# Altium schematic symbol library Sch_Lib.SchLib: 138 symbols (part 2 of 2)
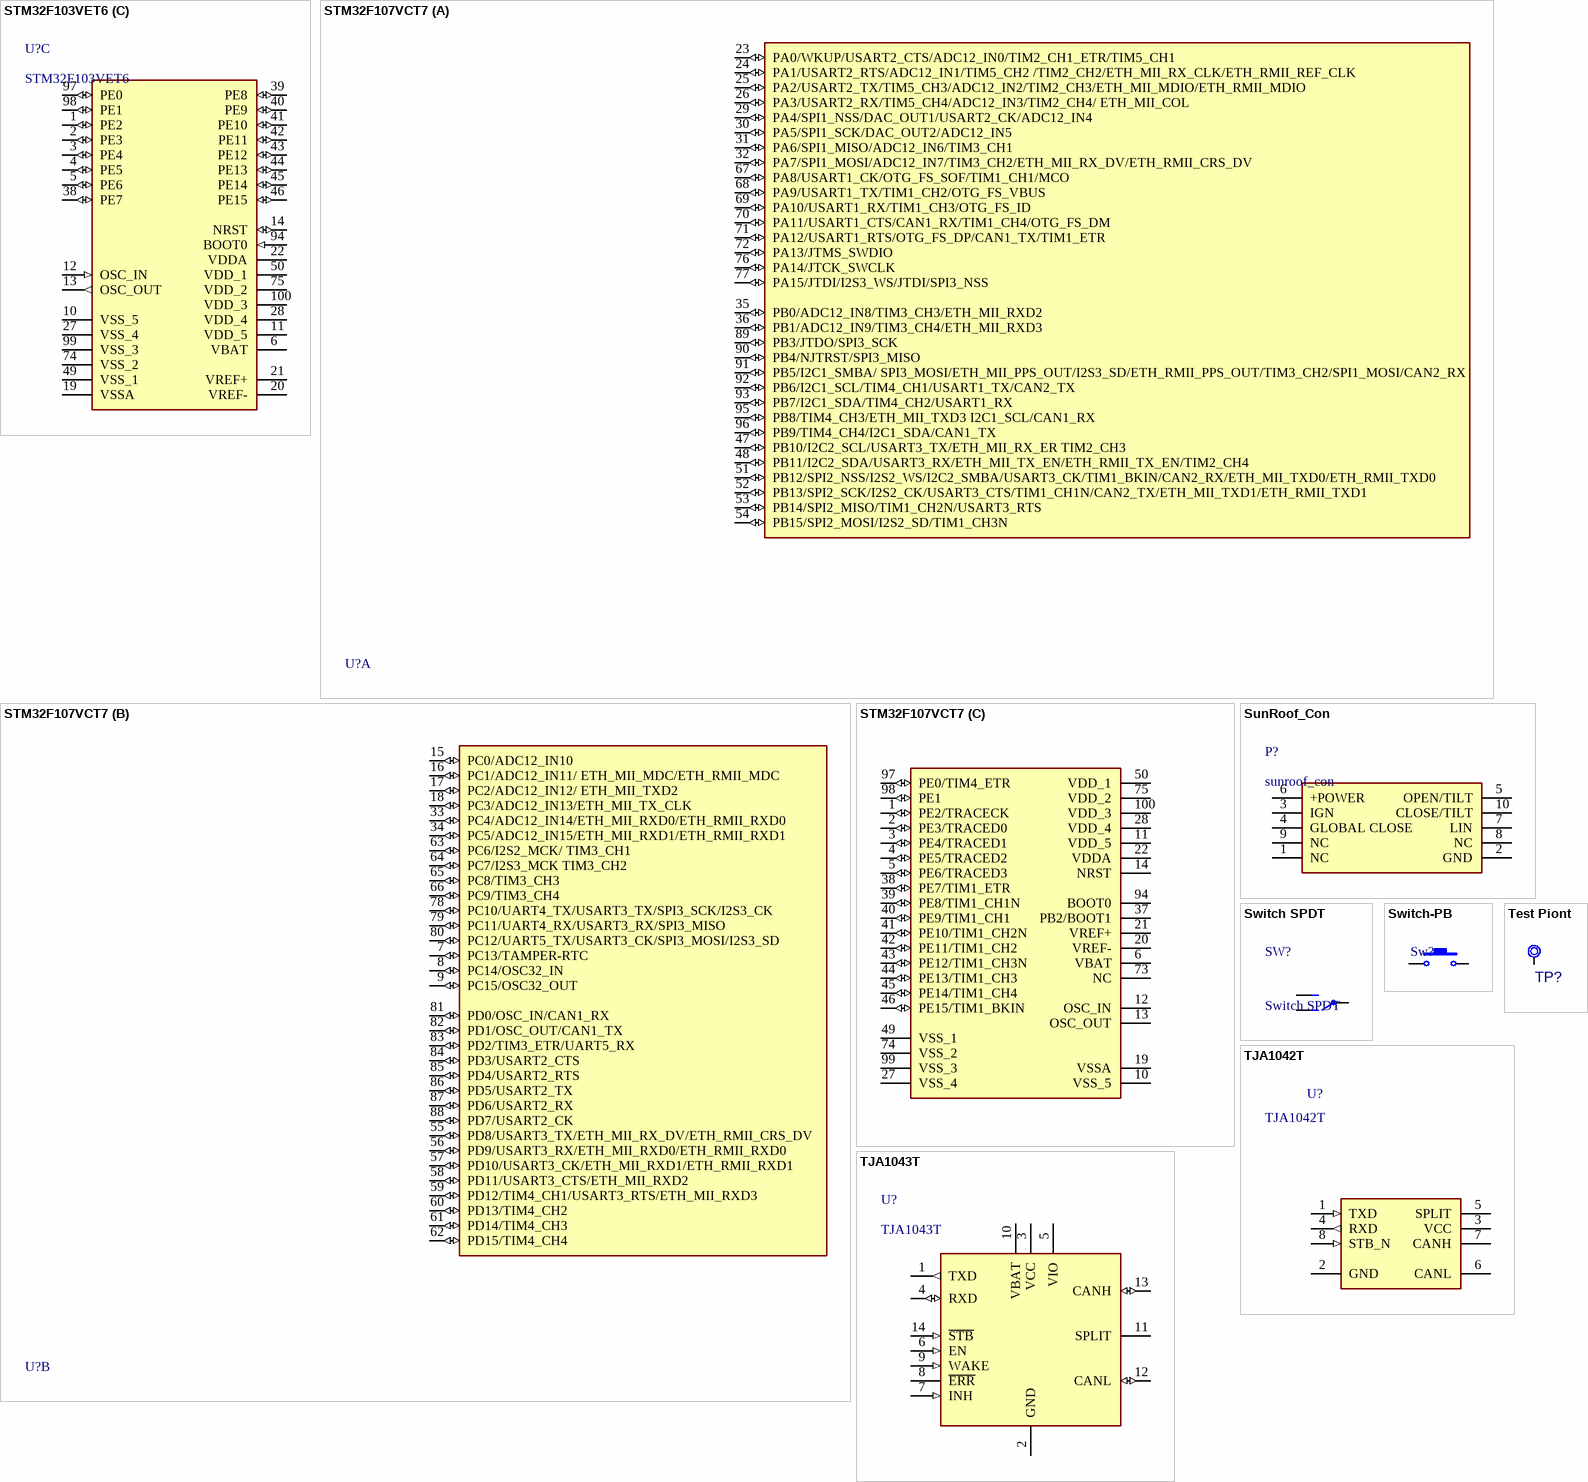
[diagram p6: symbols STM32F103VET6 to TJA1043T]

## STM32F107VCT7
designator U?, comment STM32F107VCT7_QFP100  (value not drawn)
MCU, STM32 ARM 32-bit, Cortex M3, 256KB FLASH, 64KB SRAM; DESC: USB OTG, ETHERNET, 2ADC, DAC, CAN, I2C, SPI, UART; MANF: ST; PARAM2: 2~3.6VCC, 72MHz, 2X12Bit ADC, 2X12Bit DAC; PARAM: 256KB FLASH, 64KB SRAM, -40~105oC; MANF_P#: STM32F107VCT7; PRICE: 9$; VALUE: STM32F107
footprint QFG50_100 (LQFP100, PQFP100, A100 (Cypress), TQ100/VQ100 (Xilinx), 14.0x14.0mm, Pitch 0.5mm, HT100, HTG100)
footprint QFG50_100 (LQFP100, PQFP100, A100 (Cypress), TQ100/VQ100 (Xilinx), 14.0x14.0mm, Pitch 0.5mm, HT100, HTG100)
footprint QFG65_100T (HQ100, 20X14, 0.65mm)
footprint QFG65_100 (PQ100, MS-022-GC1(JEDEC), QFP100, 20X14, 0.65mm)
footprint QFG50_100 (LQFP100, PQFP100, A100 (Cypress), TQ100/VQ100 (Xilinx), 14.0x14.0mm, Pitch 0.5mm, HT100, HTG100)
part A pins: 23 PA0/WKUP/USART2_CTS/ADC12_IN0/TIM2_CH1_ETR/TIM5_CH1 (io), 24 PA1/USART2_RTS/ADC12_IN1/TIM5_CH2 /TIM2_CH2/ETH_MII_RX_CLK/ETH_RMII_REF_CLK (io), 25 PA2/USART2_TX/TIM5_CH3/ADC12_IN2/TIM2_CH3/ETH_MII_MDIO/ETH_RMII_MDIO (io), 26 PA3/USART2_RX/TIM5_CH4/ADC12_IN3/TIM2_CH4/ ETH_MII_COL (io), 29 PA4/SPI1_NSS/DAC_OUT1/USART2_CK/ADC12_IN4 (io), 30 PA5/SPI1_SCK/DAC_OUT2/ADC12_IN5 (io), 31 PA6/SPI1_MISO/ADC12_IN6/TIM3_CH1 (io), 32 PA7/SPI1_MOSI/ADC12_IN7/TIM3_CH2/ETH_MII_RX_DV/ETH_RMII_CRS_DV (io), 35 PB0/ADC12_IN8/TIM3_CH3/ETH_MII_RXD2 (io), 36 PB1/ADC12_IN9/TIM3_CH4/ETH_MII_RXD3 (io), 47 PB10/I2C2_SCL/USART3_TX/ETH_MII_RX_ER TIM2_CH3 (io), 48 PB11/I2C2_SDA/USART3_RX/ETH_MII_TX_EN/ETH_RMII_TX_EN/TIM2_CH4 (io), 51 PB12/SPI2_NSS/I2S2_WS/I2C2_SMBA/USART3_CK/TIM1_BKIN/CAN2_RX/ETH_MII_TXD0/ETH_RMII_TXD0 (io), 52 PB13/SPI2_SCK/I2S2_CK/USART3_CTS/TIM1_CH1N/CAN2_TX/ETH_MII_TXD1/ETH_RMII_TXD1 (io), 53 PB14/SPI2_MISO/TIM1_CH2N/USART3_RTS (io), 54 PB15/SPI2_MOSI/I2S2_SD/TIM1_CH3N (io), 67 PA8/USART1_CK/OTG_FS_SOF/TIM1_CH1/MCO (io), 68 PA9/USART1_TX/TIM1_CH2/OTG_FS_VBUS (io), 69 PA10/USART1_RX/TIM1_CH3/OTG_FS_ID (io), 70 PA11/USART1_CTS/CAN1_RX/TIM1_CH4/OTG_FS_DM (io), 71 PA12/USART1_RTS/OTG_FS_DP/CAN1_TX/TIM1_ETR (io), 72 PA13/JTMS_SWDIO (io), 76 PA14/JTCK_SWCLK (io), 77 PA15/JTDI/I2S3_WS/JTDI/SPI3_NSS (io), 89 PB3/JTDO/SPI3_SCK (io), 90 PB4/NJTRST/SPI3_MISO (io), 91 PB5/I2C1_SMBA/ SPI3_MOSI/ETH_MII_PPS_OUT/I2S3_SD/ETH_RMII_PPS_OUT/TIM3_CH2/SPI1_MOSI/CAN2_RX (io), 92 PB6/I2C1_SCL/TIM4_CH1/USART1_TX/CAN2_TX (io), 93 PB7/I2C1_SDA/TIM4_CH2/USART1_RX (io), 95 PB8/TIM4_CH3/ETH_MII_TXD3 I2C1_SCL/CAN1_RX (io), 96 PB9/TIM4_CH4/I2C1_SDA/CAN1_TX (io)
part B pins: 7 PC13/TAMPER-RTC (io), 8 PC14/OSC32_IN (io), 9 PC15/OSC32_OUT (io), 15 PC0/ADC12_IN10 (io), 16 PC1/ADC12_IN11/ ETH_MII_MDC/ETH_RMII_MDC (io), 17 PC2/ADC12_IN12/ ETH_MII_TXD2 (io), 18 PC3/ADC12_IN13/ETH_MII_TX_CLK (io), 33 PC4/ADC12_IN14/ETH_MII_RXD0/ETH_RMII_RXD0 (io), 34 PC5/ADC12_IN15/ETH_MII_RXD1/ETH_RMII_RXD1 (io), 55 PD8/USART3_TX/ETH_MII_RX_DV/ETH_RMII_CRS_DV (io), 56 PD9/USART3_RX/ETH_MII_RXD0/ETH_RMII_RXD0 (io), 57 PD10/USART3_CK/ETH_MII_RXD1/ETH_RMII_RXD1 (io), 58 PD11/USART3_CTS/ETH_MII_RXD2 (io), 59 PD12/TIM4_CH1/USART3_RTS/ETH_MII_RXD3 (io), 60 PD13/TIM4_CH2 (io), 61 PD14/TIM4_CH3 (io), 62 PD15/TIM4_CH4 (io), 63 PC6/I2S2_MCK/ TIM3_CH1 (io), 64 PC7/I2S3_MCK TIM3_CH2 (io), 65 PC8/TIM3_CH3 (io), 66 PC9/TIM3_CH4 (io), 78 PC10/UART4_TX/USART3_TX/SPI3_SCK/I2S3_CK (io), 79 PC11/UART4_RX/USART3_RX/SPI3_MISO (io), 80 PC12/UART5_TX/USART3_CK/SPI3_MOSI/I2S3_SD (io), 81 PD0/OSC_IN/CAN1_RX (io), 82 PD1/OSC_OUT/CAN1_TX (io), 83 PD2/TIM3_ETR/UART5_RX (io), 84 PD3/USART2_CTS (io), 85 PD4/USART2_RTS (io), 86 PD5/USART2_TX (io), 87 PD6/USART2_RX (io), 88 PD7/USART2_CK (io)
part C pins: 1 PE2/TRACECK (io), 2 PE3/TRACED0 (io), 3 PE4/TRACED1 (io), 4 PE5/TRACED2 (io), 5 PE6/TRACED3 (io), 6 VBAT, 10 VSS_5, 11 VDD_5, 12 OSC_IN, 13 OSC_OUT, 14 NRST, 19 VSSA, 20 VREF-, 21 VREF+, 22 VDDA, 27 VSS_4, 28 VDD_4, 37 PB2/BOOT1, 38 PE7/TIM1_ETR (io), 39 PE8/TIM1_CH1N (io), 40 PE9/TIM1_CH1 (io), 41 PE10/TIM1_CH2N (io), 42 PE11/TIM1_CH2 (io), 43 PE12/TIM1_CH3N (io), 44 PE13/TIM1_CH3 (io), 45 PE14/TIM1_CH4 (io), 46 PE15/TIM1_BKIN (io), 49 VSS_1, 50 VDD_1, 73 NC, 74 VSS_2, 75 VDD_2, 94 BOOT0, 97 PE0/TIM4_ETR (io), 98 PE1 (io), 99 VSS_3, 100 VDD_3

## SunRoof_Con
designator P?, comment sunroof_con
10 pin connector for sunroof control board
footprint SUNROOF_SOCKET
pins: 1 NC, 2 GND, 3 IGN, 4 GLOBAL CLOSE, 5 OPEN/TILT, 6 +POWER, 7 LIN, 8 NC, 9 NC, 10 CLOSE/TILT

## Switch SPDT
designator SW?
SPDT Switch; Designer: Saeid Jorablo; Company: ControTEK; Adding Date: 1387/01/10
footprint SW SPDT- Horizontal
footprint Switch SPDT - 500x270x1100x185 mil
footprint Switch SPDT - 500x270x1100x185 mil - Right Angle
footprint Switch SPDT - 500x270x1100x185 mil
pins: 1, 2, 3

## Switch-PB
designator Sw?, comment Push Button  (value not drawn)
Push Button Switch
footprint ATLAS-Cluster-Switch (PushBottom-6mm)
footprint switch_PB
pins: 1, 2

## Test Piont
designator TP?, comment Test Point No BOM  (value not drawn)  (no BOM)
Test Point; MCHP-ID: CON2323; Value: TP SMD 1.27x1.27
footprint TP
pins: 1

## TJA1042T
designator U?
NXP High-Speed CAN XCVR, SO-8; MF: NXP Semiconductors; Package: None; Price: None; MP: TJA1042T; Purchase-URL: https://pricing.snapeda.com/search/part/TJA1042T/?ref=eda; Availability: In Stock; Value: *; Check_prices: https://www.snapeda.com/parts/TJA1042T/Nexperia/view-part/?ref=eda; SnapEDA_Link: https://www.snapeda.com/parts/TJA1042T/Nexperia/view-part/?ref=snap
footprint SO-8
footprint SO_8 (SOP-8, 5x3.9mm body 1.27mm pitch, SOT96-1, M08A, S8, SOIC8, VO8, MS-012AA(JEDEC), R-8, 8S2, VOG8)
pins: 1 TXD (in), 2 GND, 3 VCC, 4 RXD (out), 5 SPLIT, 6 CANL, 7 CANH, 8 STB_N (in)

## TJA1043T
designator U?
High speed CANbus transceiver
footprint SO14_M (14-Pin Small Outline Integrated Circuit 1.27 mm Pitch, IPC Low Density - Designer Abbas Basereh)
pins: 1 TXD (out), 2 GND (power), 3 VCC (power), 4 RXD (io), 5 VIO (power), 6 EN (in), 7 INH (in), 8 ~{ERR}, 9 WAKE (in), 10 VBAT (power), 11 SPLIT, 12 CANL (io), 13 CANH (io), 14 ~{STB} (in)

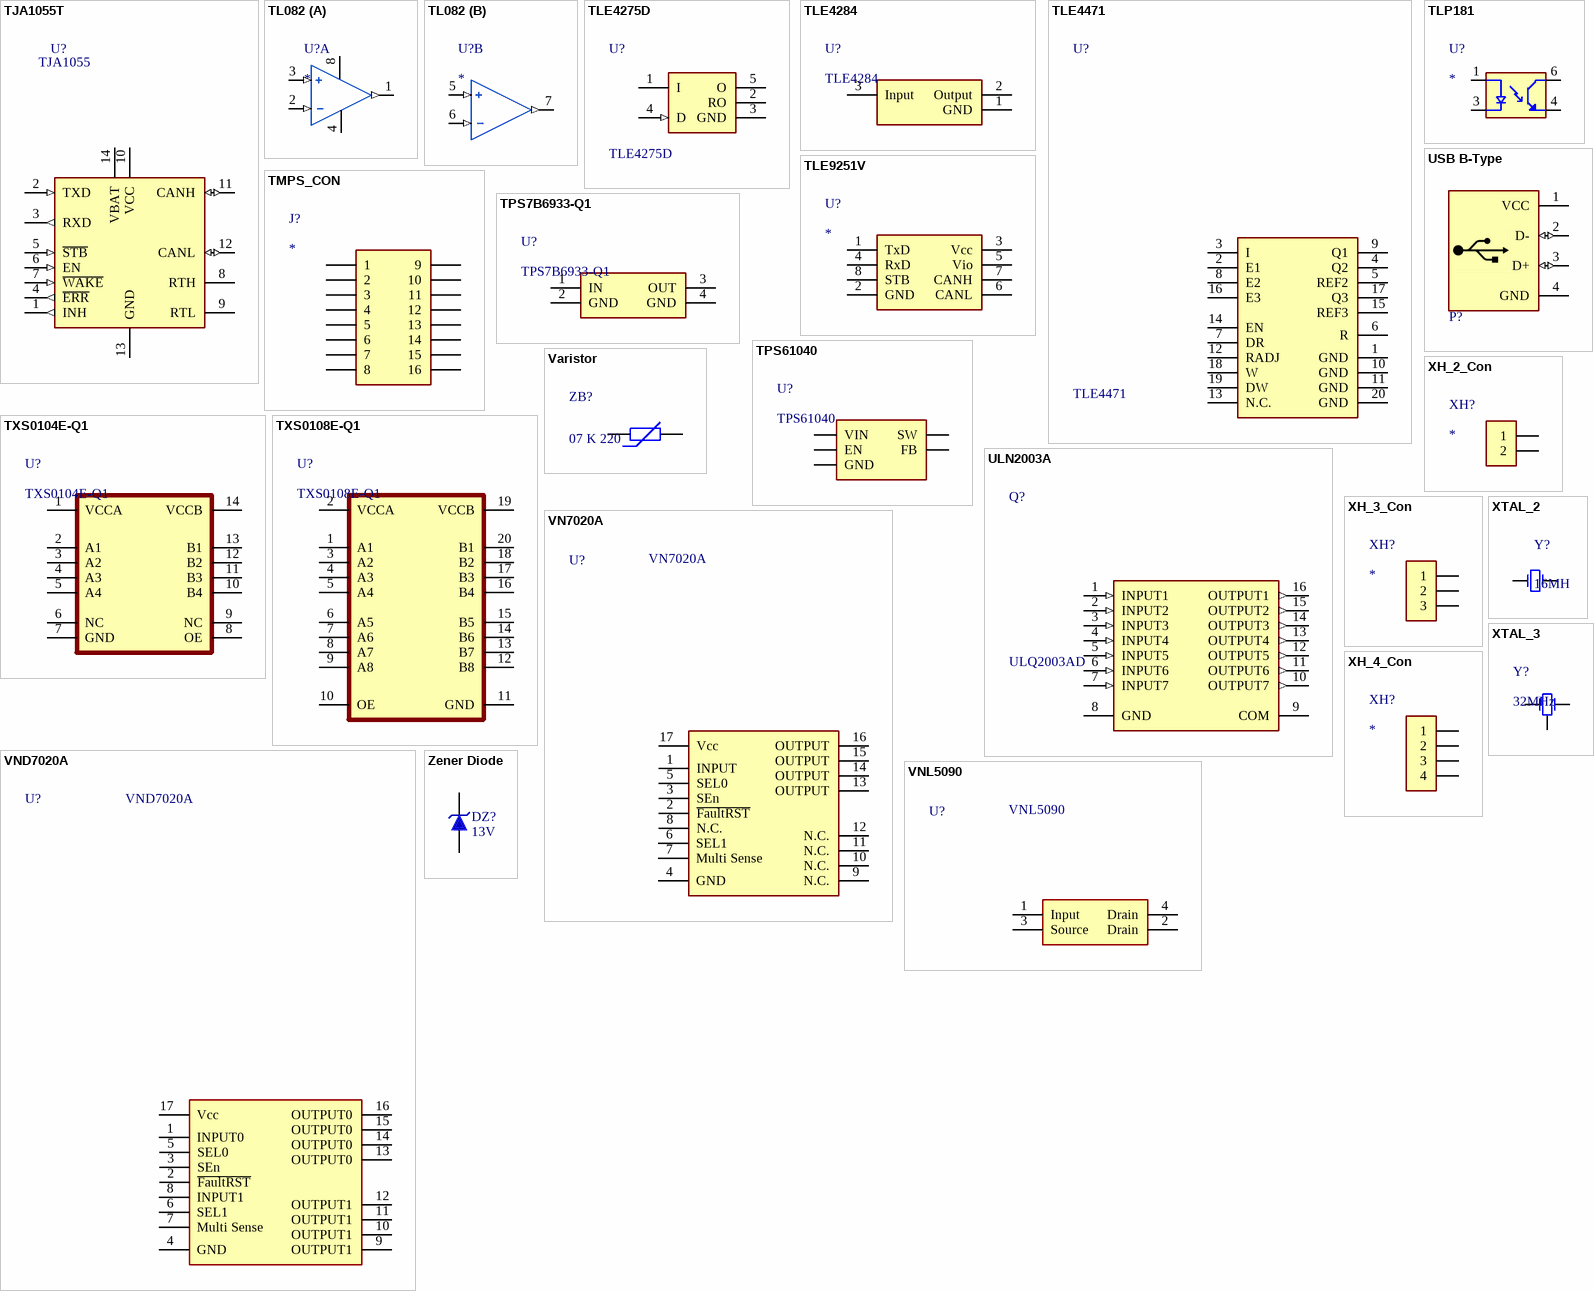
[diagram p5: symbols TJA1055T to Zener Diode]

## TJA1055T
designator U?, comment TJA1055
1/1 Transceiver Half CANbus 14-SO; MP: TJA1055T; MF: NXP Semiconductors; SnapEDA_Link: https://www.snapeda.com/parts/TJA1055T/NXP+Semiconductors/view-part/?ref=snap; Purchase-URL: https://pricing.snapeda.com/search/part/TJA1055T/?ref=eda; Value: *; Availability: In Stock; Check_prices: https://www.snapeda.com/parts/TJA1055T/NXP+Semiconductors/view-part/?ref=eda; Package: SOIC-14 NXP Semiconductors; Price: None
footprint SOT108-1
pins: 1 INH (out), 2 TXD (in), 3 RXD (out), 4 ~{ERR} (out), 5 ~{STB} (in), 6 EN (in), 7 ~{WAKE} (in), 8 RTH, 9 RTL, 10 VCC (power), 11 CANH (io), 12 CANL (io), 13 GND (power), 14 VBAT (power)

## TL082
designator U?
TL082  OpAmp
footprint SO_8 (SOP-8, 5x3.9mm body 1.27mm pitch, SOT96-1, M08A, S8, SOIC8, VO8, MS-012AA(JEDEC), R-8, 8S2, VOG8)
part A pins: 1 - (out), 2 - (in), 3 + (in), 4 (power), 8 (power)
part B pins: 5 + (in), 6 - (in), 7 (out)

## TLE4275D
designator U?
Low Drop Fixed Voltage Regulator, 5.5 to 42 V Supply, 5 V Output, -40 to 150 degC, PG-TO252-5-11, Reel, Green; Manufacturer: Infineon; Accuracy: 2 %; Regulator Type: single output; Dropout Voltage: 250 mV; Max. Output Current: 400 mA; Typical Quiescent Current: 150 uA; Green: TRUE; Output Voltage: 5V; ComponentLink2URL: http://www.infineon.com/dgdl/TLE4275v50_DS_rev1.7.pdf?folderId=db3a304412b407950112b408e8c90004&fileId=db3a304412b407950112b437f96169d5&location=en.Products.Automotive_ICs.Linear_Voltage_Regulators_for_Automotive-Applications.Linear_Voltage_Regulators_-_Se; PartNumber: TLE4275D; PackageDescription: 5-Pin Plastic (Green) Transistor Single Outline Package, 6.5 x 6.12 mm Body, 1.14 mm Pitch; PackageReference: PG-TO252-5-11; ComponentLink3Description: Package Specification; Halogen-free: TRUE; ComponentLink3URL: http://www.infineon.com/dgdl/TLE7276-Data+Sheet-+v1_11.pdf?folderId=db3a304412b407950112b408e8c90004&fileId=db3a304412b407950112b436c53f66c8&sId=db3a30433db6f09f013dc0e43c0428c1; Packing: Reel; ComponentLink2Description: Datasheet; ComponentLink1Description: Manufacturer URL; Mounting Technology: Surface Mount; DatasheetVersion: Rev. 1.7; PackageVersion: Nov-10; ComponentLink1URL: http://www.infineon.com/; Operating Range: 5.5 to 42 V
footprint PG_TO252-5-11 (DPAK, 5-Leads, Body 6.5x6.12mm, Pitch 1.14mm, IPC Medium Density)
pins: 1 I (power) "Input; block to ground directly at the IC by a ceramic capacitor.", 2 RO (oc) "Reset Output; open collector output", 3 GND (power) "Ground; Pin 3 internally connected to heatsink", 4 D (in) "Reset Delay; connect capacitor to GND for setting delay time", 5 O (power) "Output; block to ground with a >= 22 uF capacitor, ESR < 5 ohm at 10 kHz."

## TLE4284
designator U?
Output voltage 5.0V / 1.0 A output current / Low dropout voltage, typ. 1 V / Overtemperature protection / Wide operating range up to 40 V / Wide temperature range of Tj = -40 to 150 °C / AEC Qualified; Designed by: Amir Alizadeh; Modified Date: 2024/06/24
footprint to252-3-11
pins: 1 GND (power), 2 Output (power), 3 Input (power)

## TLE4471
designator U?
Triple Voltage Regulator
footprint tle4471
footprint TLE 4471
footprint tle4471
footprint tle4471
pins: 1 GND, 2 E1, 3 I, 4 Q2, 5 REF2, 6 R, 7 DR, 8 E2, 9 Q1, 10 GND, 11 GND, 12 RADJ, 13 N.C., 14 EN, 15 REF3, 16 E3, 17 Q3, 18 W, 19 DW, 20 GND

## TLE9251V
designator U?
High speed CAN Transceiver
footprint SO_8 (SOP-8, 5x3.9mm body 1.27mm pitch, SOT96-1, M08A, S8, SOIC8, VO8, MS-012AA(JEDEC), R-8, 8S2, VOG8)
footprint SO_8 (SOP-8, 5x3.9mm body 1.27mm pitch, SOT96-1, M08A, S8, SOIC8, VO8, MS-012AA(JEDEC), R-8, 8S2, VOG8)
pins: 1 TxD, 2 GND (power), 3 Vcc (power), 4 RxD, 5 Vio (power), 6 CANL, 7 CANH, 8 STB

## TLP181
designator U?
IRED & Photo-Transistor / TOSHIBA mini flat coupler
footprint SOIC254P700X280-4N (TPL181__Optocoupler)
pins: 1 A, 3 C, 4 ET, 6 CT

## TMPS_CON
designator J?
16 PIN TPMS Male Connector
footprint TPMS_C_2*8
pins: 1, 2, 3, 4, 5, 6, 7, 8, 9, 10, 11, 12, 13, 14, 15, 16

## TPS7B6933-Q1
designator U?
TPS7B6933-Q1 High-Voltage Ultra-Low IQ Low-Dropout 3.3V Regulator
footprint SOT223 (SOT223, 4-Leads, Body 6.5x3.5mm, Pitch 2.30mm-Designer Abbas Basereh)
pins: 1 IN (power), 2 GND (power), 3 OUT (power), 4 GND (power)

## TPS61040
designator U?
TPS6104x Low-Power DC-DC Boost Converter in SOT-23 and WSON Packages; MF: Texas Instruments; Availability: Unavailable; Package: SOT-23 Texas Instruments; MP: TPS61040; SnapEDA_Link: https://www.snapeda.com/parts/TPS61040/Texas%20Instruments/view-part/558533/?ref=snap; Value: *; Price: None
footprint DRV
footprint SOT_23_5
pins: 1 SW (power), 2 GND (power), 3 FB (power), 4 EN (power), 5 VIN (power)

## TXS0104E-Q1
designator U?
4-Bit Bidirectional Voltage-Level Translator for Open-Drain and Push-Pull / Applications
footprint TSSOP-14
pins: 1 VCCA, 2 A1, 3 A2, 4 A3, 5 A4, 6 NC, 7 GND, 8 OE, 9 NC, 10 B4, 11 B3, 12 B2, 13 B1, 14 VCCB

## TXS0108E-Q1
designator U?
8-Bit Bidirectional Voltage-Level Translator for Open-Drain and Push-Pull / Applications
footprint TSSOP-20
pins: 1 A1, 2 VCCA, 3 A2, 4 A3, 5 A4, 6 A5, 7 A6, 8 A7, 9 A8, 10 OE, 11 GND, 12 B8, 13 B7, 14 B6, 15 B5, 16 B4, 17 B3, 18 B2, 19 VCCB, 20 B1

## ULN2003A
designator Q?, comment ULQ2003AD
Seven Darlington Arrays; Published: 2017-3-2; DatasheetVersion: STMicroelectronics GROUP OF COMPANIES; PackageVersion: 2017-3-2; PackageReference: SO16_N; Publisher: Abbas Basereh; PackageDescription: 16-Pin Small Outline Integrated Circuit 1.27 mm Pitch, IPC High Density; Supplier 1: Digi-Key; Supplier Part Number 1: ULN2003A; Supplier 2: Mouser; Supplier Part Number 2: ULN2003A; ComponentLink1Description: Datasheet; ComponentLink2URL: http://www.st.com
footprint SO16_L (16-Pin Small Outline Integrated Circuit 1.27 mm Pitch, IPC High Density - DESIGNER ABBAS BASEREH)
footprint SO16_M (16-Pin Small Outline Integrated Circuit 1.27 mm Pitch, IPC Low Density - DESIGNER ABBAS BASEREH)
footprint SO16_N (16-Pin Small Outline Integrated Circuit 1.27 mm Pitch, IPC Medium Density - DESIGNER ABBAS BASEREH)
pins: 1 INPUT1 (in), 2 INPUT2 (in), 3 INPUT3 (in), 4 INPUT4 (in), 5 INPUT5 (in), 6 INPUT6 (in), 7 INPUT7 (in), 8 GND (power), 9 COM (power), 10 OUTPUT7 (out), 11 OUTPUT6 (out), 12 OUTPUT5 (out), 13 OUTPUT4 (out), 14 OUTPUT3 (out), 15 OUTPUT2 (out), 16 OUTPUT1 (out)

## USB B-Type
designator P?, comment USB Connector  (value not drawn)
USB Connector-B Type; Adding Date: 10/26/2010
footprint USB2.5-2H4D (Connector; USB1.1, Type B, Thru-Hole; 4 Position; Right Angle)
footprint USB2.5-2H4E (Connector; USB1.1, Type B, Thru-Hole; 4 Position; Right Angle)
footprint USB2.5-2H4F (Connector; USB1.1, Type B, Thru-Hole; 4 Position; Right Angle)
footprint USB2.5-2H4G (Connector; USB1.1, Type B, Thru-Hole; 4 Position; Right Angle)
footprint USB2.5-2V4 (Connector; USB1.1, Type B, Thru-Hole; 4 Position; Vertical)
footprint USB2.5-4V4 (Connector; USB1.1, Type B, Thru-Hole; 4 Position; Vertical)
footprint USB/SM1.25-4H4 (Connector; USB1.1, Type B, SM; 4 Position; Right Angle)
pins: 1 VCC (power), 2 D- (io), 3 D+ (io), 4 GND (power)

## Varistor
designator ZB?, comment 07 K 220
Varistor (Voltage-Sensitive Resistor); Published: 24-Mar-1999; LatestRevisionDate: 29-May-2009; LatestRevisionNote: IPC-7351 Footprint Added.; PackageVersion: Mar-2003; PackageReference: 6-0805; Publisher: Altium Limited; PackageDescription: Chip Resistor 0805 Case Size; Code_IPC: RESC2012
footprint VARISTOR_6mm (6MM_1.2MM HOLE)
footprint VARISTOR_8mm (8MM_1.2MM HOLE)
pins: 1, 2

## VN7020A
designator U?
Single High-side driver with MultiSense analog feedback for automotive applications
footprint SOP50P600X148-17N
pins: 1 INPUT, 2 ~{FaultRST}, 3 SEn, 4 GND (power), 5 SEL0, 6 SEL1, 7 Multi Sense, 8 N.C., 9 N.C., 10 N.C., 11 N.C., 12 N.C., 13 OUTPUT, 14 OUTPUT, 15 OUTPUT, 16 OUTPUT, 17 Vcc (power)

## VND7020A
designator U?
Double channel high-side driver with MultiSense analog feedback for automotive applications
footprint POWER-SSO-16 (SOP50P600X148-17N)
pins: 1 INPUT0, 2 ~{FaultRST}, 3 SEn, 4 GND (power), 5 SEL0, 6 SEL1, 7 Multi Sense, 8 INPUT1, 9 OUTPUT1, 10 OUTPUT1, 11 OUTPUT1, 12 OUTPUT1, 13 OUTPUT0, 14 OUTPUT0, 15 OUTPUT0, 16 OUTPUT0, 17 Vcc (power)

## VNL5090
designator U?
fully protected low side driver / for automotive applications
footprint SOT230P700X180-4N
pins: 1 Input, 2 Drain, 3 Source, 4 Drain

## XH_2_Con
designator XH?
XH_2_Connector
footprint XH_2 (PW10-xx-M, JST-BxB-XH-A pitch: 2.5mm)
pins: 1, 2

## XH_3_Con
designator XH?
XH_3_Connector
footprint XH_3 (PW10-xx-M, JST-BxB-XH-A pitch: 2.5mm)
pins: 1, 2, 3

## XH_4_Con
designator XH?
XH_4_Connector
footprint XH_4 (2.54mm)
pins: 1, 2, 3, 4

## XTAL_2
designator Y?, comment 16MH
XTAL Crystal 2Pin; Designer: ABBAS BASEREH; Value: 12 MHz; Design Date: 2017-1-3; ComponentLink1Description: Datasheet; ComponentLink2Description: Reference; Mounting Technology: Surface Mount\Through-Hole; Status: Unreleased
footprint XTAL
footprint XTAL_6035 (ABM7 6.2X3.5mm, 6.0X3.5mm)
pins: 1 OSC1, 2 OSC2

## XTAL_3
designator Y?, comment 32MHz
SMD  Crystal 3Pin / Xtal-32-5G3XDS-TR; MP: ECS-120-32-5G3XDS-TR; Package: None; Price: None; Value: *; Availability: Unavailable
footprint XTAL_32.768khz
footprint XTAL_12032 (XTAL_ECS-120-32-5G3XDS-TR)
pins: 1 OSC1, 2 OSC2, 3 GND (power)

## Zener Diode
designator DZ?, comment 13V
General Purpose; VALUE: 12V; Published: 2017-1-12; PackageVersion: 2017-1-12; PackageReference: DO 35; Publisher: Abbas Basereh; PackageDescription: DIODE GEN ZENER; ComponentLink1Description: Manufacturer Link; ComponentLink2Description: Datasheet
footprint SOD80, LL-34 (Diode, MiniMELF)
pins: 1, 2